# EAGLE library part XV11LIDAR (library RaspberryPi)
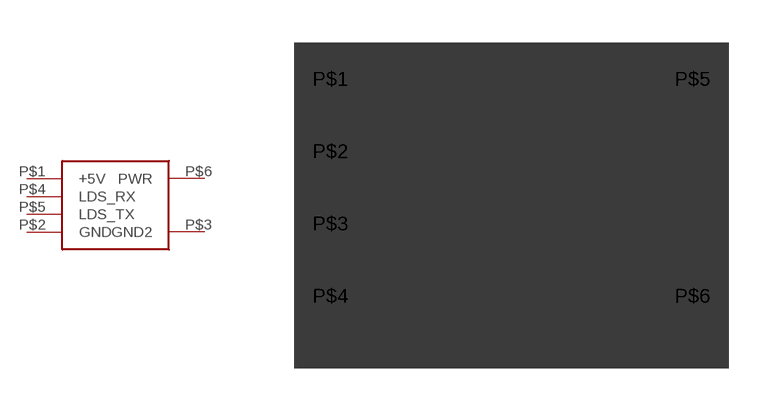
[diagram p3: symbol with the pads of LIDAR; footprint LIDAR]

Designator prefix -

## XV11LIDAR  [LIDAR]
P$1  +5V
P$2  GND
P$3  GND2
P$4  LDS_RX
P$5  LDS_TX
P$6  PWR

## Footprint LIDAR (pad centres in mm)
drill 0.6 square: P$1 -6.35,3.81; P$2 -6.35,1.27; P$3 -6.35,-1.27; P$4 -6.35,-3.81; P$5 6.35,3.81; P$6 6.35,-3.81
hole 0.35 at -6.35,-3.81
hole 0.35 at -6.35,-1.27
hole 0.35 at -6.35,1.27
hole 0.35 at -6.35,3.81
hole 0.35 at 6.35,3.81
hole 0.35 at 6.35,-3.81